# Altium schematic symbol library SCH_Switch.SchLib: 1 symbol
Pins are listed as number, name and electrical type; pins without a type are passive.

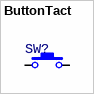
[diagram p0: symbol ButtonTact]

## ButtonTact
designator SW?  (value not drawn)
Manufacturer: C&K; Manufacturer Part Number: PTS820 J15M SMTR LFS; Description: SWITCH TACTILE SPST-NO 0.05A 12V; 梱包形態: カット テープ（CT）; 部品状況: 有効; 回路: SPST-NO; スイッチ機能: オフ-モメンタリ; コンタクト定格 @ 電圧: 0.05A @ 12VDC; アクチュエータタイプ: 標準; 実装タイプ: 面実装; PCBからのアクチュエータ高さ、垂直: 1.50mm; アクチュエータ方向: 上部作動式; 終端形態: Jリード; 概要: 3.90mm x 2.90mm; イルミネーション: 照明なし; 作動荷重: 160gf; スイッチトラベル: 0.20mm; 機械的寿命: 200、000サイクル; 動作温度: -40°C～85°C; Supplier 1: Digi-Key; RoHS: RoHS Compliant; Category: スイッチ; Stock 1: 52352; Pricing 1: 1=49, 10=47.4, 25=45.72, 50=44.06, 100=42.37, 250=38.98, 500=33.894, 1000=28.81 (JPY); アクチュエータ長、直角: -; イルミネーションタイプ、色: -; イルミネーション電圧（公称）: -; 防塵防水: -; 特長: -; アクチュエータ材質: -; ComponentLink1URL: http://www.ckswitches.com/media/1474/pts820.pdf; ComponentLink1Description: http://www.ckswitches.com/media/1474/pts820.pdf; Supplier Part Number 1: CKN10506CT-ND
footprint PTS820_J15
pins: 1, 2